# Altium footprint library PCB1.PcbLib: 2 footprints
Each footprint in its own frame and in the unit in brackets; x right, y up, seen from the top. Pads: shape width x height; smd on the part's side, far side on the other; paste and mask are expansions set on the pad; w line width, h text height; cw(c..) or ccw(c..) is an arc to the next point about the centre after c.
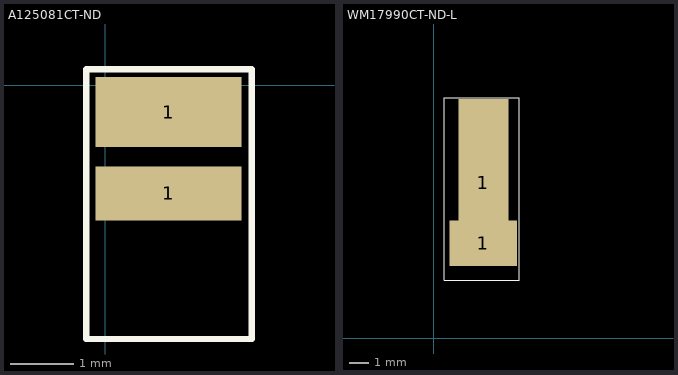
[diagram p0: the footprints below, top view; thin cyan lines are the x and y axes]

## A125081CT-ND [mm]
pads (2):
  rect 2.3x0.85 smd: 1(1,-1.7)
  rect 2.3x1.1 smd: 1(1,-0.42)
Top Overlay:
  lines w0.102: -0.3,-3.994 -0.3,0.252 2.31,0.252 2.31,-3.994 -0.3,-3.994
3D body "c-2286211-3-a-3d.stp": height 2.29, standoff -0.09, extent 0.15,-3.962 1.85,0.038

## WM17990CT-ND-L [mm]
height 2.9
pads (2):
  rect 3.4x2.3 smd mask+0.1: 1(2.5,4.78)
  rect 2.5x8.4 smd mask+0.1: 1(2.5,7.831)
Top Layer:
  region: 0.318,9.449
  region: -3.81,6.731
Top Overlay:
  lines w0.05: 0.53,2.91 4.29,2.91 4.29,12.11 0.53,12.11 0.53,2.91
Top Solder:
  pour cut-out: 11.28,8.056
3D body "2038638103.stp": height 2.9, standoff -0.1, extent 1,4.05 4,12.05